# Altium footprint library KLS7-TS3601.PcbLib: 1 footprints
Each footprint in its own frame and in the unit in brackets; x right, y up, seen from the top. Pads: shape width x height; smd on the part's side, far side on the other; paste and mask are expansions set on the pad; w line width, h text height; cw(c..) or ccw(c..) is an arc to the next point about the centre after c.
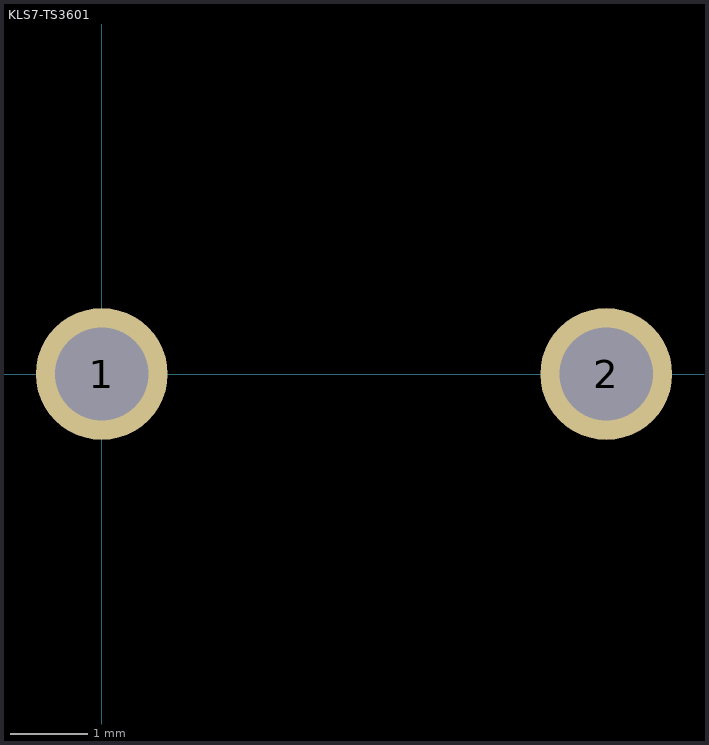
[diagram p0: the footprint, top view; thin cyan lines are the x and y axes]

## KLS7-TS3601 [mm]
pads (2):
  round 1.7 hole 1.2 mask+0.1: 1(0,0) 2(6.5,0)
3D body "KLS7.step": height 4.2, standoff -2.6, extent -0.678,-1.75 7.178,1.75